# Altium schematic symbol library AMC1311.SchLib: 1 symbol
Pins are listed as number, name and electrical type; pins without a type are passive.

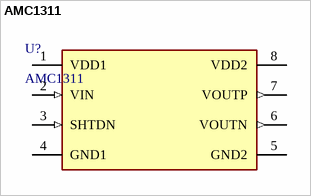
[diagram p0: symbol AMC1311]

## AMC1311
designator U?
footprint FP-DWV0008A-MFG
footprint FP-DWV0008A-IPC_C
footprint FP-DWV0008A-IPC_B
footprint FP-DWV0008A-IPC_A
pins: 1 VDD1 (power), 2 VIN (in), 3 SHTDN (in), 4 GND1 (power), 5 GND2 (power), 6 VOUTN (out), 7 VOUTP (out), 8 VDD2 (power)